# Altium schematic symbol library TCRT5000_SCH_Library_ARAF.SchLib: 1 symbol
Pins are listed as number, name and electrical type; pins without a type are passive.

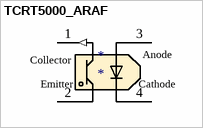
[diagram p0: symbol TCRT5000_ARAF]

## TCRT5000_ARAF
designator *
footprint TCRT5000_Footprint_ARAF
pins: 1 (out), 2, 3 (power), 4
text: Collector; Anode; Emitter; Cathode